# Altium integrated library Linear Technology Power Management Switching Regulator LTC1174-LTC3901.IntLib: 2647 symbols (part 198 of 364)
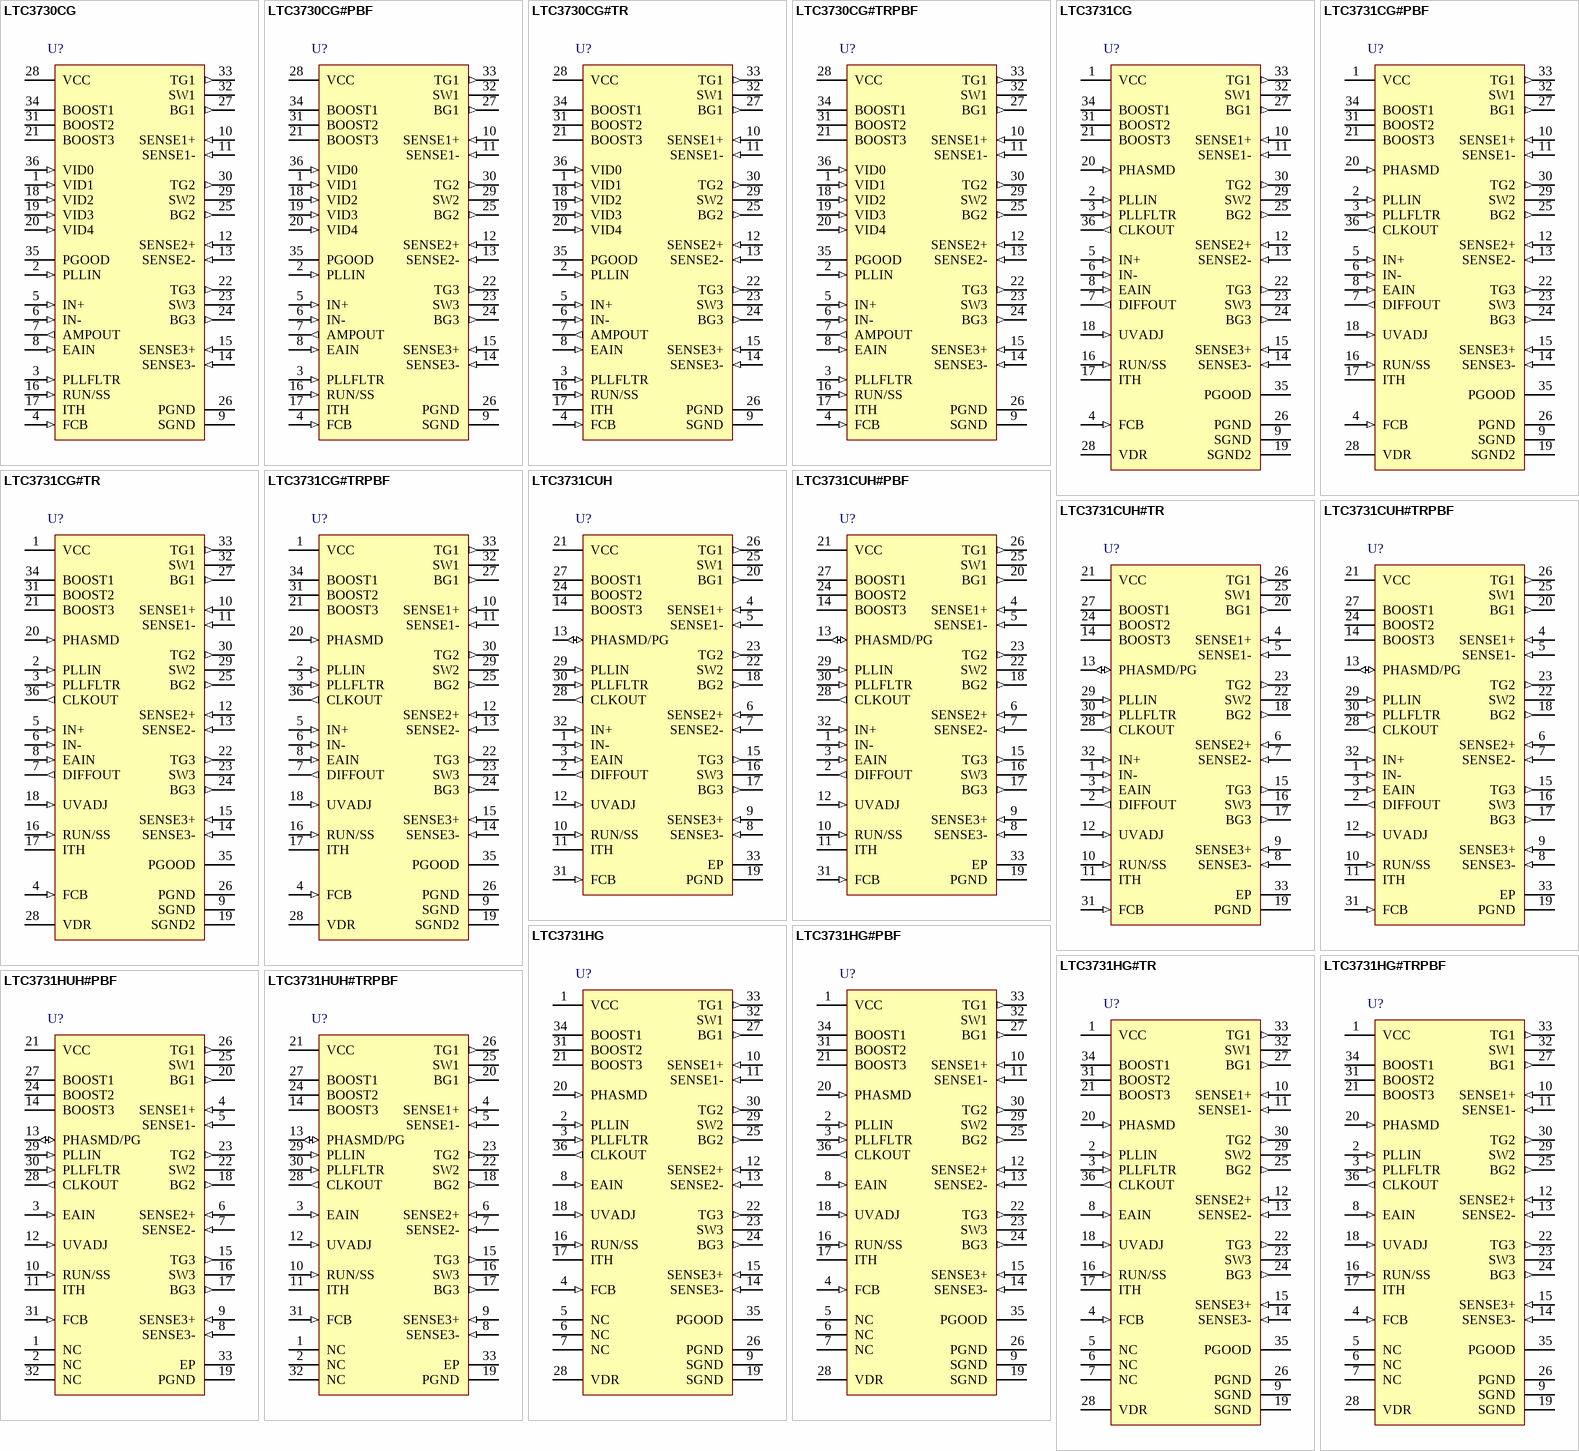
[diagram p316: symbols LTC3730CG to LTC3731HUH#TRPBF]

## LTC3731HG#TR
designator U?
3-Phase, 600 kHz, Synchronous Buck Switching Regulator Controller H Grade, 36-pin SOP (G-36), -40 to 140 degC, Tape and Reel; Manufacturer: Linear Technology; PartNumber: LTC3731HG#TR; Frequency Sync Range: 250kHz - 600kHz; Number of Outputs: 1; DatasheetVersion: Rev. B; PackageReference: G-36; PackageDescription: 36-Pin Plastic SSOP, Body 12.8 x 5.3 mm, Pitch 0.65 mm; Supplier 1: Digi-Key; Supplier Part Number 1: LTC3731HG#TR-ND; Packing: Tape and Reel; RoHS: FALSE; Mounting Technology: Surface Mount; ComponentLink1Description: Manufacturer URL; ComponentLink1URL: http://www.linear.com/; ComponentLink2Description: Datasheet; ComponentLink2URL: http://cds.linear.com/docs/en/datasheet/3731Hfb.pdf; ComponentLink3Description: Package Specification; ComponentLink3URL: http://cds.linear.com/docs/en/packaging/SSOP_36_05-08-1640.pdf
footprint LT-G-36_N (SOP, 36-Leads, Body 13.1x5.6mm, Pitch 0.65mm, IPC Medium Density)
footprint LT-G-36_L (SOP, 36-Leads, Body 13.1x5.6mm, Pitch 0.65mm, IPC High Density)
footprint LT-G-36_M (SOP, 36-Leads, Body 13.1x5.6mm, Pitch 0.65mm, IPC Low Density)
pins: 1 VCC (power) "Main Supply Pin. Because this pin supplies both the controller circuit power as well as the high power pulses supplied to drive the external MOSFET gates, this pin needs to be very carefully and closely decoupled to the (See Datasheet)", 2 PLLIN (in) "Synchronization Input to Phase Detector. This pin is internally terminated to SGND with 50kohm. The phase-locked loop will force the rising top gate signal of controller 1 to be synchronized with the rising edge of the PLLIN (See Datasheet)", 3 PLLFLTR (in) "The phase-locked loop’s lowpass filter is tied to this pin. Alternatively, this pin can be driven with an AC or DC voltage source to vary the frequency of the internal oscillator. (Do not apply voltage directly to this pi(See Datasheet)", 4 FCB (in) "Forced Continuous Control Input. The voltage applied to this pin sets the operating mode of the controller. The forced continuous current mode is active when the applied voltage is less than 0.6V. Burst Mode operation will (See Datasheet)", 5 NC, 6 NC, 7 NC, 8 EAIN (in) "This is the input to the error amplifier that compares the feedback voltage to the internal 0.6V reference voltage.", 9 SGND (power) "Signal Ground. This pin must be routed separately under the IC to the PGND pin and then to the main ground plane. The exposed pad in the UH package must be soldered to PCB ground for electrical contact and rated thermal (See Datasheet)", 10 SENSE1+ (in) "The Inputs to Each Differential Current Comparator. The ITH pin voltage and built-in offsets between SENSE- and SENSE+ pins, in conjunction with RSENSE, set the current trip threshold level.", 11 SENSE1- (in) "The Inputs to Each Differential Current Comparator. The ITH pin voltage and built-in offsets between SENSE- and SENSE+ pins, in conjunction with RSENSE, set the current trip threshold level.", 12 SENSE2+ (in) "The Inputs to Each Differential Current Comparator. The ITH pin voltage and built-in offsets between SENSE- and SENSE+ pins, in conjunction with RSENSE, set the current trip threshold level.", 13 SENSE2- (in) "The Inputs to Each Differential Current Comparator. The ITH pin voltage and built-in offsets between SENSE- and SENSE+ pins, in conjunction with RSENSE, set the current trip threshold level.", 14 SENSE3- (in) "The Inputs to Each Differential Current Comparator. The ITH pin voltage and built-in offsets between SENSE- and SENSE+ pins, in conjunction with RSENSE, set the current trip threshold level.", 15 SENSE3+ (in) "The Inputs to Each Differential Current Comparator. The ITH pin voltage and built-in offsets between SENSE- and SENSE+ pins, in conjunction with RSENSE, set the current trip threshold level.", 16 RUN/SS (in) "Combination of Soft-Start, Run Control Input and Short-Circuit Detection Timer. A capacitor to ground at this pin sets the ramp time to full current output as well as the time delay prior to an output voltage short-circuit (See Datasheet)", 17 ITH "Error Amplifier Output and Switching Regulator Compensation Point. All three current comparator’s thresholds increase with this control voltage.", 18 UVADJ (in) "Input to the Undervoltage Shutdown Comparator. When the applied input voltage is less than 1.2V, this comparator turns off the output MOSFET driver stages and discharges the RUN/SS capacitor.", 19 SGND (power) "Signal Ground. This pin must be routed separately under the IC to the PGND pin and then to the main ground plane. The exposed pad in the UH package must be soldered to PCB ground for electrical contact and rated thermal (See Datasheet)", 20 PHASMD (in) "This pin determines the phase shift between the first controller’s rising TG signal and the rising edge of the CLKOUT signal. Logic 0 yields 30 degrees and logic 1 yields 60 degrees.", 21 BOOST3 "Positive Supply Pins to the Topside Floating Drivers. Bootstrapped capacitors, charged with external Schottky diodes and a boost voltage source, are connected between the BOOST and SW pins. Voltage swing at the BOOST pins is (See Datasheet)", 22 TG3 (out) "High Current Gate Drives for Top N-channel MOSFETs. These are the outputs of floating drivers with a voltage swing equal to the boost voltage source superimposed on the switch node voltage SW.", 23 SW3 "Switch Node Connections to Inductors. Voltage swing at these pins is from a Schottky diode (external) voltage drop below ground to VIN (where VIN is the external MOSFET supply rail).", 24 BG3 (out) "High Current Gate Drives for Bottom N?Channel MOSFETs. Voltage swing at these pins is from ground to VCC.", 25 BG2 (out) "High Current Gate Drives for Bottom N?Channel MOSFETs. Voltage swing at these pins is from ground to VCC.", 26 PGND (power) "Driver Power Ground. This pin connects directly to the sources of the bottom N-channel external MOSFETs and the (-) terminals of CIN.", 27 BG1 (out) "High Current Gate Drives for Bottom N?Channel MOSFETs. Voltage swing at these pins is from ground to VCC.", 28 VDR (power) "Supplies power to the bottom gate drivers only. This pin needs to be very carefully and closely decoupled to the IC’s PGND pin.", 29 SW2 "Switch Node Connections to Inductors. Voltage swing at these pins is from a Schottky diode (external) voltage drop below ground to VIN (where VIN is the external MOSFET supply rail).", 30 TG2 (out) "High Current Gate Drives for Top N-channel MOSFETs. These are the outputs of floating drivers with a voltage swing equal to the boost voltage source superimposed on the switch node voltage SW.", 31 BOOST2 "Positive Supply Pins to the Topside Floating Drivers. Bootstrapped capacitors, charged with external Schottky diodes and a boost voltage source, are connected between the BOOST and SW pins. Voltage swing at the BOOST pins is (See Datasheet)", 32 SW1 "Switch Node Connections to Inductors. Voltage swing at these pins is from a Schottky diode (external) voltage drop below ground to VIN (where VIN is the external MOSFET supply rail).", 33 TG1 (out) "High Current Gate Drives for Top N-channel MOSFETs. These are the outputs of floating drivers with a voltage swing equal to the boost voltage source superimposed on the switch node voltage SW.", 34 BOOST1 "Positive Supply Pins to the Topside Floating Drivers. Bootstrapped capacitors, charged with external Schottky diodes and a boost voltage source, are connected between the BOOST and SW pins. Voltage swing at the BOOST pins is (See Datasheet)", 35 PGOOD (oc) "This open-drain output is pulled low when the output voltage has been outside the PGOOD tolerance window for the VPGDLY delay of approximately 100us.", 36 CLKOUT (out) "Output clock signal available to synchronize other controller ICs for additional MOSFET stages/phases."